# EAGLE library part AMIS42770ICAW1RG (library ON Semiconductor_By_element14_Batch_1)
Dual High Speed CAN Transceiver
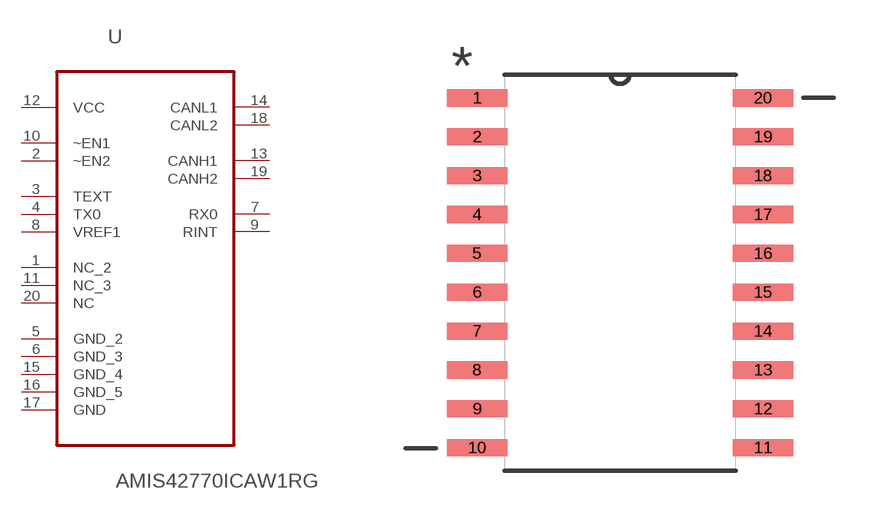
[diagram p12: symbol with the pads of SOIC127P1030X265-20N; footprint SOIC127P1030X265-20N]

Designator prefix U

## AMIS42770ICAW1RG (MPN: AMIS42770ICAW1RG; OC_FARNELL: 1641442; OC_NEWARK: 03P1165; PACKAGE: SOIC-20; SUPPLIER: On Semiconductor)  [SOIC127P1030X265-20N]
1  NC_2  nc
2  ~EN2  in
3  TEXT  in
4  TX0  in
5  GND_2  pas
6  GND_3  pas
7  RX0  out
8  VREF1  in
9  RINT  out
10  ~EN1  in
11  NC_3  nc
12  VCC  pwr
13  CANH1
14  CANL1
15  GND_4  pas
16  GND_5  pas
17  GND  pas
18  CANL2
19  CANH2
20  NC  nc

## Footprint SOIC127P1030X265-20N (pad centres in mm)
smd 1.981 x 0.559: 1 -4.674,5.715; 2 -4.674,4.445; 3 -4.674,3.175; 4 -4.674,1.905; 5 -4.674,0.635; 6 -4.674,-0.635; 7 -4.674,-1.905; 8 -4.674,-3.175; 9 -4.674,-4.445; 10 -4.674,-5.715; 11 4.674,-5.715; 12 4.674,-4.445; 13 4.674,-3.175; 14 4.674,-1.905; 15 4.674,-0.635; 16 4.674,0.635; 17 4.674,1.905; 18 4.674,3.175; 19 4.674,4.445; 20 4.674,5.715